# Altium schematic symbol library Modules.SchLib: 4 symbols
Pins are listed as number, name and electrical type; pins without a type are passive.

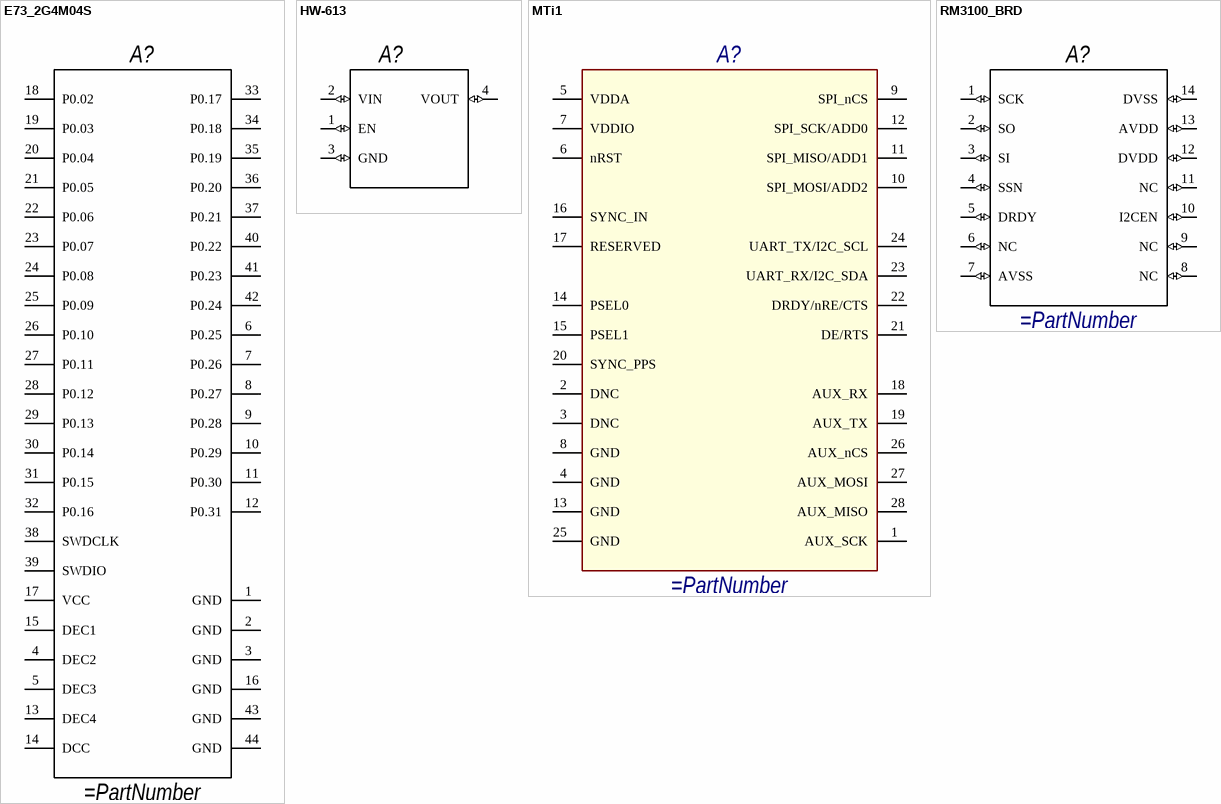
[diagram p0: symbols E73_2G4M04S to RM3100_BRD]

## E73_2G4M04S
designator A?
E73-2G4M04S nRF52832 based BLE module; GateName_1: G$1; SymbolName_1: E73_2G4M04S; LibraryName: E73-2G4M04S; DeviceSetName: E73_2G4M04S; Package: E73_2G4M04S
pins: 1 GND, 2 GND, 3 GND, 4 DEC2, 5 DEC3, 6 P0.25, 7 P0.26, 8 P0.27, 9 P0.28, 10 P0.29, 11 P0.30, 12 P0.31, 13 DEC4, 14 DCC, 15 DEC1, 16 GND, 17 VCC, 18 P0.02, 19 P0.03, 20 P0.04, 21 P0.05, 22 P0.06, 23 P0.07, 24 P0.08, 25 P0.09, 26 P0.10, 27 P0.11, 28 P0.12, 29 P0.13, 30 P0.14, 31 P0.15, 32 P0.16, 33 P0.17, 34 P0.18, 35 P0.19, 36 P0.20, 37 P0.21, 38 SWDCLK, 39 SWDIO, 40 P0.22, 41 P0.23, 42 P0.24, 43 GND, 44 GND

## HW-613
designator A?
HW-613 China DC-DC Buck module on MP2315
pins: 1 EN (io), 2 VIN (io), 3 GND (io), 4 VOUT (io)

## MTi1
designator A?
XSENS MTi1-series
pins: 1 AUX_SCK, 2 DNC, 3 DNC, 4 GND, 5 VDDA, 6 nRST, 7 VDDIO, 8 GND, 9 SPI_nCS, 10 SPI_MOSI/ADD2, 11 SPI_MISO/ADD1, 12 SPI_SCK/ADD0, 13 GND, 14 PSEL0, 15 PSEL1, 16 SYNC_IN, 17 RESERVED, 18 AUX_RX, 19 AUX_TX, 20 SYNC_PPS, 21 DE/RTS, 22 DRDY/nRE/CTS, 23 UART_RX/I2C_SDA, 24 UART_TX/I2C_SCL, 25 GND, 26 AUX_nCS, 27 AUX_MOSI, 28 AUX_MISO

## RM3100_BRD
designator A?
RM3100 Breakout Board
pins: 1 SCK (io), 2 SO (io), 3 SI (io), 4 SSN (io), 5 DRDY (io), 6 NC (io), 7 AVSS (io), 8 NC (io), 9 NC (io), 10 I2CEN (io), 11 NC (io), 12 DVDD (io), 13 AVDD (io), 14 DVSS (io)